# EAGLE library part AP62301 (library ICs)
Buck Switching Regulator IC Positive Adjustable 0.8V 1 Output 3A SOT-563, SOT-666
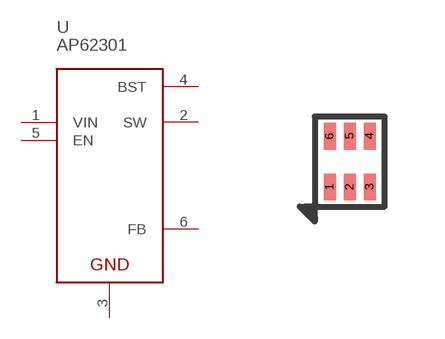
[diagram p303: symbol with the pads of SOT563-6; footprint SOT563-6]

Designator prefix U

## AP62301Z6-7 (DIGIKEY: 31-AP62301Z6-7CT-ND; HEIGHT: 1; PRICE_PER: 0.4; VALUE: AP62301)  [SOT563-6]
1  VIN
2  SW
3  GND
4  BST
5  EN
6  FB

## Footprint SOT563-6 (pad centres in mm)
smd 0.3 x 0.67: 1 -0.5,-0.635; 2 0,-0.635; 3 0.5,-0.635; 4 0.5,0.635; 5 0,0.635; 6 -0.5,0.635